# EAGLE library part 18-650_4BATTHOLDER (library MPD)
Datasheet: http://www.memoryprotectiondevices.com/datasheets/BK-18650-PC8-datasheet.pdf Used in 18-650 cell fixtures 12/3/14
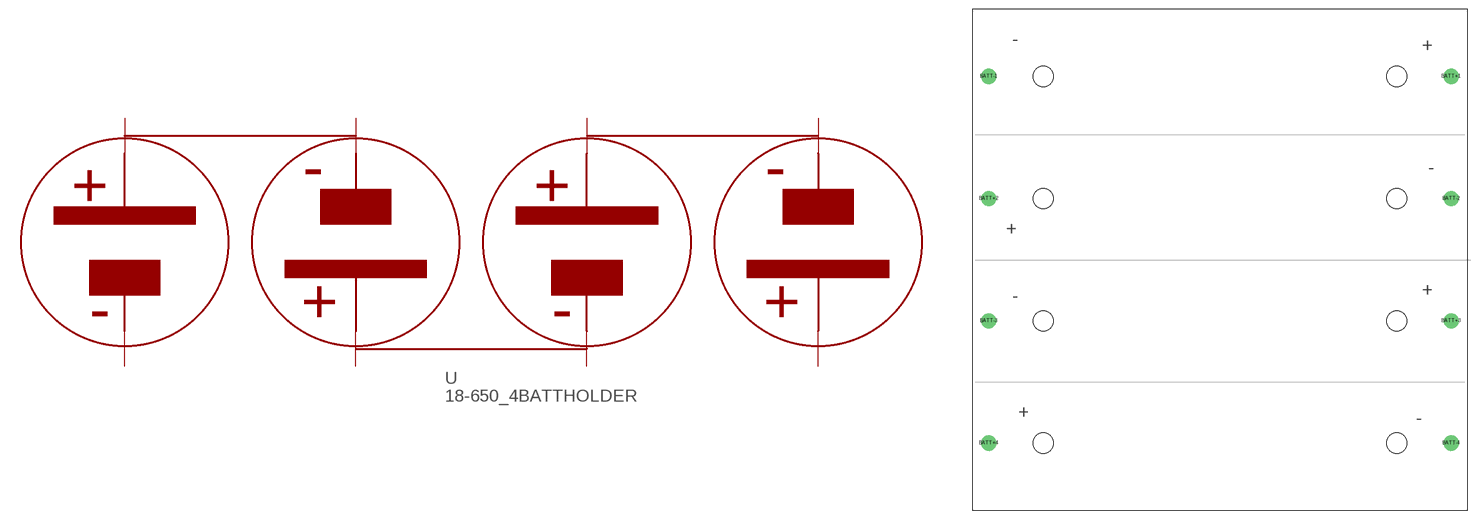
[diagram p0: symbol with the pads of 18650-4BATT; footprint 18650-4BATT]

Designator prefix -

## 18-650_4BATTHOLDER (PARTNO: BK-18650-PC8)  [18650-4BATT]
BATT+1  BATT+1
BATT+2  BATT+2
BATT+3  BATT+3
BATT+4  BATT+4
BATT-1  BATT-1
BATT-2  BATT-2
BATT-3  BATT-3
BATT-4  BATT-4

## Footprint 18650-4BATT (pad centres in mm)
drill 1.66 round: BATT+1 37.8,30; BATT+2 -37.8,10; BATT+3 37.8,-10; BATT+4 -37.8,-30; BATT-1 -37.8,30; BATT-2 37.8,10; BATT-3 -37.8,-10; BATT-4 37.8,-30
hole 3.3 at -28.9,30
hole 3.3 at -28.9,10
hole 3.3 at -28.9,-10
hole 3.3 at -28.9,-30
hole 3.3 at 28.9,-30
hole 3.3 at 28.9,-10
hole 3.3 at 28.9,10
hole 3.3 at 28.9,30